# Altium footprint library AP3445LW6-7.PcbLib: 3 footprints
Each footprint in its own frame and in the unit in brackets; x right, y up, seen from the top. Pads: shape width x height; smd on the part's side, far side on the other; paste and mask are expansions set on the pad; w line width, h text height; cw(c..) or ccw(c..) is an arc to the next point about the centre after c.
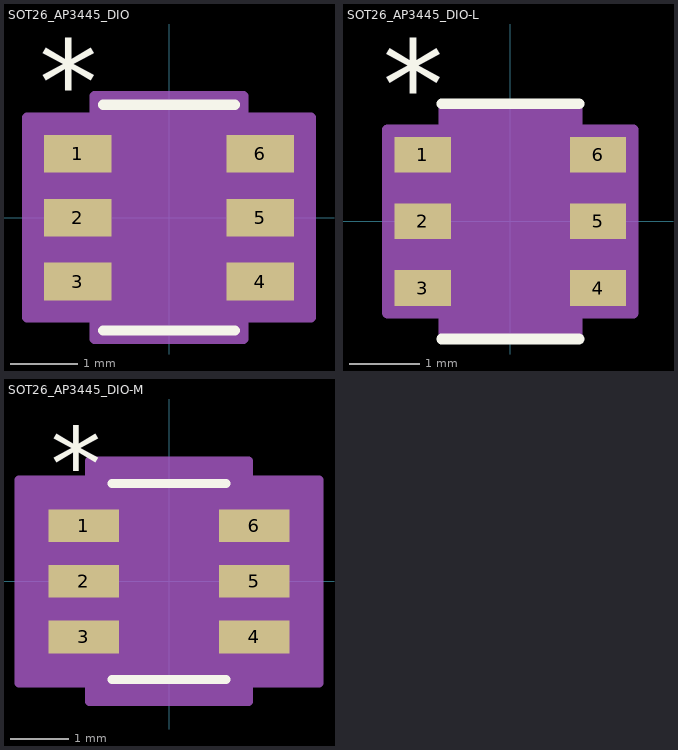
[diagram p0: the footprints below, top view; thin cyan lines are the x and y axes]

## SOT26_AP3445_DIO [mil]
pads (6):
  rect 39.5x22 smd paste+0 mask+0: 1(-53.25,37.4) 2(-53.25,0) 3(-53.25,-37.4) 4(53.25,-37.4) 5(53.25,0) 6(53.25,37.4)
Top Overlay:
  lines w6: -38.5,-66 38.5,-66 ; -38.5,66 38.5,66
  text "*" at -75.75,54.4 h50
Mechanical 13:
  lines w0: -12,61 ccw(c0,61) 12,61
  lines w1: -59,-47.4 -59,-27.4 -33.5,-27.4 -33.5,-47.4 -59,-47.4 ; -59,-10 -59,10 -33.5,10 -33.5,-10 -59,-10 ; -59,27.4 -59,47.4 -33.5,47.4 -33.5,27.4 -59,27.4 ; -33.5,-61 33.5,-61 33.5,61 -33.5,61 -33.5,-61 ; 33.5,-47.4 33.5,-27.4 59,-27.4 59,-47.4 33.5,-47.4 ; 33.5,-10 33.5,10 59,10 59,-10 33.5,-10 ; 33.5,27.4 33.5,47.4 59,47.4 59,27.4 33.5,27.4
  text "*" at -31,8 h50
Mechanical 15:
  region: -43.5,-58.4 -83,-58.4 -83,58.4 -43.5,58.4 -43.5,71 43.5,71 43.5,58.4 83,58.4 83,-58.4 43.5,-58.4 43.5,-71 -43.5,-71
  lines w6: -83,-58.4 -83,58.4 -43.5,58.4 -43.5,71 43.5,71 43.5,58.4 83,58.4 83,-58.4 43.5,-58.4 43.5,-71 -43.5,-71 -43.5,-58.4 -83,-58.4
3D body "SOT26_AP3445_DIO.step": height 55.12, standoff 0, extent -59.02,-60.98 59.02,60.98

## SOT26_AP3445_DIO-L [mil]
pads (6):
  rect 31.5x20 smd paste+0 mask+0: 1(-49.25,37.4) 2(-49.25,0) 3(-49.25,-37.4) 4(49.25,-37.4) 5(49.25,0) 6(49.25,37.4)
Top Overlay:
  lines w6: -38.5,-66 38.5,-66 ; -38.5,66 38.5,66
  text "*" at -71.75,52.4 h50
Mechanical 13:
  lines w0: -12,61 ccw(c0,61) 12,61
  lines w1: -59,-47.4 -59,-27.4 -33.5,-27.4 -33.5,-47.4 -59,-47.4 ; -59,-10 -59,10 -33.5,10 -33.5,-10 -59,-10 ; -59,27.4 -59,47.4 -33.5,47.4 -33.5,27.4 -59,27.4 ; -33.5,-61 33.5,-61 33.5,61 -33.5,61 -33.5,-61 ; 33.5,-47.4 33.5,-27.4 59,-27.4 59,-47.4 33.5,-47.4 ; 33.5,-10 33.5,10 59,10 59,-10 33.5,-10 ; 33.5,27.4 33.5,47.4 59,47.4 59,27.4 33.5,27.4
  text "*" at -31,8 h50
Mechanical 15:
  region: -37.5,-51.4 -69,-51.4 -69,51.4 -37.5,51.4 -37.5,65 37.5,65 37.5,51.4 69,51.4 69,-51.4 37.5,-51.4 37.5,-65 -37.5,-65
  lines w6: -69,-51.4 -69,51.4 -37.5,51.4 -37.5,65 37.5,65 37.5,51.4 69,51.4 69,-51.4 37.5,-51.4 37.5,-65 -37.5,-65 -37.5,-51.4 -69,-51.4
3D body "SOT26_AP3445_DIO.step": height 55.12, standoff 0, extent -59.02,-60.98 59.02,60.98

## SOT26_AP3445_DIO-M [mil]
pads (6):
  rect 47.5x22 smd paste+0 mask+0: 1(-57.25,37.4) 2(-57.25,0) 3(-57.25,-37.4) 4(57.25,-37.4) 5(57.25,0) 6(57.25,37.4)
Top Overlay:
  lines w6: -38.5,-66 38.5,-66 ; -38.5,66 38.5,66
  text "*" at -79.75,54.4 h50
Mechanical 13:
  lines w0: -12,61 ccw(c0,61) 12,61
  lines w1: -59,-47.4 -59,-27.4 -33.5,-27.4 -33.5,-47.4 -59,-47.4 ; -59,-10 -59,10 -33.5,10 -33.5,-10 -59,-10 ; -59,27.4 -59,47.4 -33.5,47.4 -33.5,27.4 -59,27.4 ; -33.5,-61 33.5,-61 33.5,61 -33.5,61 -33.5,-61 ; 33.5,-47.4 33.5,-27.4 59,-27.4 59,-47.4 33.5,-47.4 ; 33.5,-10 33.5,10 59,10 59,-10 33.5,-10 ; 33.5,27.4 33.5,47.4 59,47.4 59,27.4 33.5,27.4
  text "*" at -31,8 h50
Mechanical 15:
  region: -53.5,-68.4 -101,-68.4 -101,68.4 -53.5,68.4 -53.5,81 53.5,81 53.5,68.4 101,68.4 101,-68.4 53.5,-68.4 53.5,-81 -53.5,-81
  lines w6: -101,-68.4 -101,68.4 -53.5,68.4 -53.5,81 53.5,81 53.5,68.4 101,68.4 101,-68.4 53.5,-68.4 53.5,-81 -53.5,-81 -53.5,-68.4 -101,-68.4
3D body "SOT26_AP3445_DIO.step": height 55.12, standoff 0, extent -59.02,-60.98 59.02,60.98